# Altium footprint library WSON-10_L3.0-W3.0-P0.50-TL-EP.PcbLib: 1 footprints
Each footprint in its own frame and in the unit in brackets; x right, y up, seen from the top. Pads: shape width x height; smd on the part's side, far side on the other; paste and mask are expansions set on the pad; w line width, h text height; cw(c..) or ccw(c..) is an arc to the next point about the centre after c.
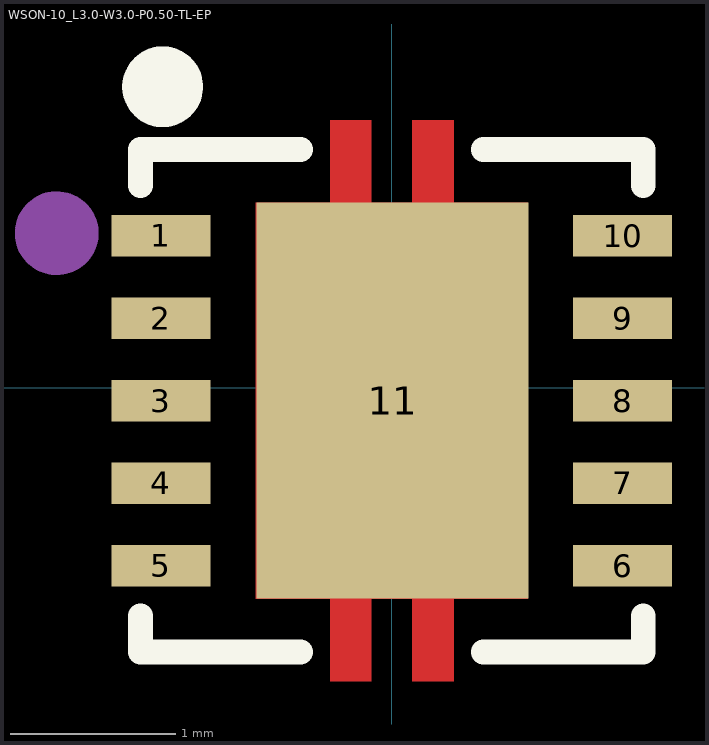
[diagram p0: the footprint, top view; thin cyan lines are the x and y axes]

## WSON-10_L3.0-W3.0-P0.50-TL-EP [mm]
pads (11):
  rect 0.6x0.25 smd: 1(-1.4,0.923) 2(-1.4,0.422) 3(-1.4,-0.078) 4(-1.4,-0.578) 5(-1.4,-1.079) 6(1.4,-1.079) 7(1.4,-0.578) 8(1.4,-0.078) 9(1.4,0.422) 10(1.4,0.923)
  rect 1.65x2.4 smd: 11(0.005,-0.077)
Top Layer:
  region: -0.125,1.622 -0.125,1.122 0.125,1.122 0.125,1.622 0.375,1.622 0.375,1.122 0.825,1.122 0.825,-1.278 0.375,-1.278 0.375,-1.778 0.125,-1.778 0.125,-1.278 -0.125,-1.278 -0.125,-1.778 -0.375,-1.778 -0.375,-1.278 -0.825,-1.278 -0.825,1.122 -0.375,1.122 -0.375,1.622
Top Overlay:
  lines w0.15: -1.524,-1.383 -1.524,-1.602 -0.554,-1.602 ; -1.524,1.227 -1.524,1.446 -0.554,1.446 ; 0.554,-1.602 1.524,-1.602 1.524,-1.383 ; 0.554,1.446 1.524,1.446 1.524,1.227
  lines w0.25: -1.27,1.824 cw(c-1.39,1.826) -1.27,1.827
Top Paste:
  region: -0.125,1.622 -0.125,1.122 0.125,1.122 0.125,1.622 0.375,1.622 0.375,1.122 0.825,1.122 0.825,-1.278 0.375,-1.278 0.375,-1.778 0.125,-1.778 0.125,-1.278 -0.125,-1.278 -0.125,-1.778 -0.375,-1.778 -0.375,-1.278 -0.825,-1.278 -0.825,1.122 -0.375,1.122 -0.375,1.622
Top Solder:
  region: -0.125,1.622 -0.125,1.122 0.125,1.122 0.125,1.622 0.375,1.622 0.375,1.122 0.825,1.122 0.825,-1.278 0.375,-1.278 0.375,-1.778 0.125,-1.778 0.125,-1.278 -0.125,-1.278 -0.125,-1.778 -0.375,-1.778 -0.375,-1.278 -0.825,-1.278 -0.825,1.122 -0.375,1.122 -0.375,1.622
Mechanical 15:
  circle w0.254: c-2.032,0.938 r0.127